# Altium schematic symbol library BQ24070RHLR.SchLib: 1 symbol
Pins are listed as number, name and electrical type; pins without a type are passive.

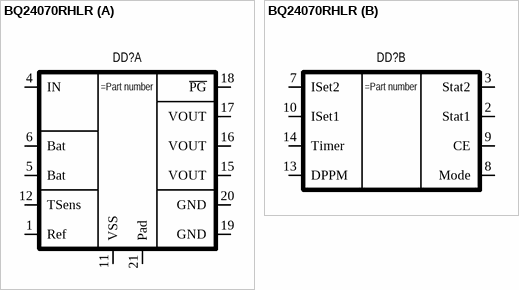
[diagram p0: symbol BQ24070RHLR]

## BQ24070RHLR
designator DD?
Single-Chip Li-Ion Charge and System Power-Path Management IC
part A pins: 1 Ref, 4 IN, 5 Bat, 6 Bat, 11 VSS, 12 TSens, 15 VOUT, 16 VOUT, 17 VOUT, 18 ~{PG}, 19 GND, 20 GND, 21 Pad
part B pins: 2 Stat1, 3 Stat2, 7 ISet2, 8 Mode, 9 CE, 10 ISet1, 13 DPPM, 14 Timer